# EAGLE library part SAMTEC7PIN (library ldalibrary)
fpga connector to output of BIST board
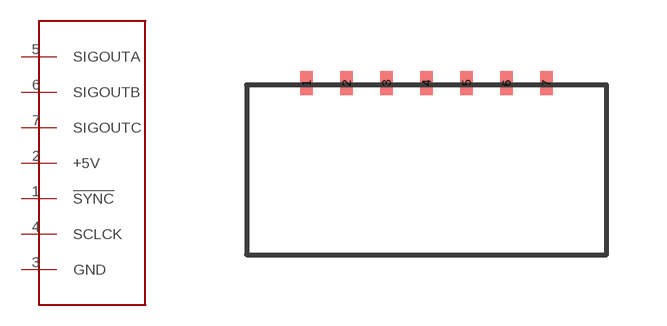
[diagram p3: symbol with the pads of SAMTEC7PIN; footprint SAMTEC7PIN]

Designator prefix -

## SAMTEC7PIN  [SAMTEC7PIN]
1  !SYNC
2  +5V
3  GND
4  SCLCK
5  SIGOUTA
6  SIGOUTB
7  SIGOUTC

## Footprint SAMTEC7PIN (pad centres in mm)
7pin connector
smd 0.305 x 0.61: 1 1.5,4.3; 2 2.5,4.3; 3 3.5,4.3; 4 4.5,4.3; 5 5.5,4.3; 6 6.5,4.3; 7 7.5,4.3